# Altium schematic symbol library Schlib1.SchLib: 71 symbols (part 1 of 2)
Pins are listed as number, name and electrical type; pins without a type are passive.

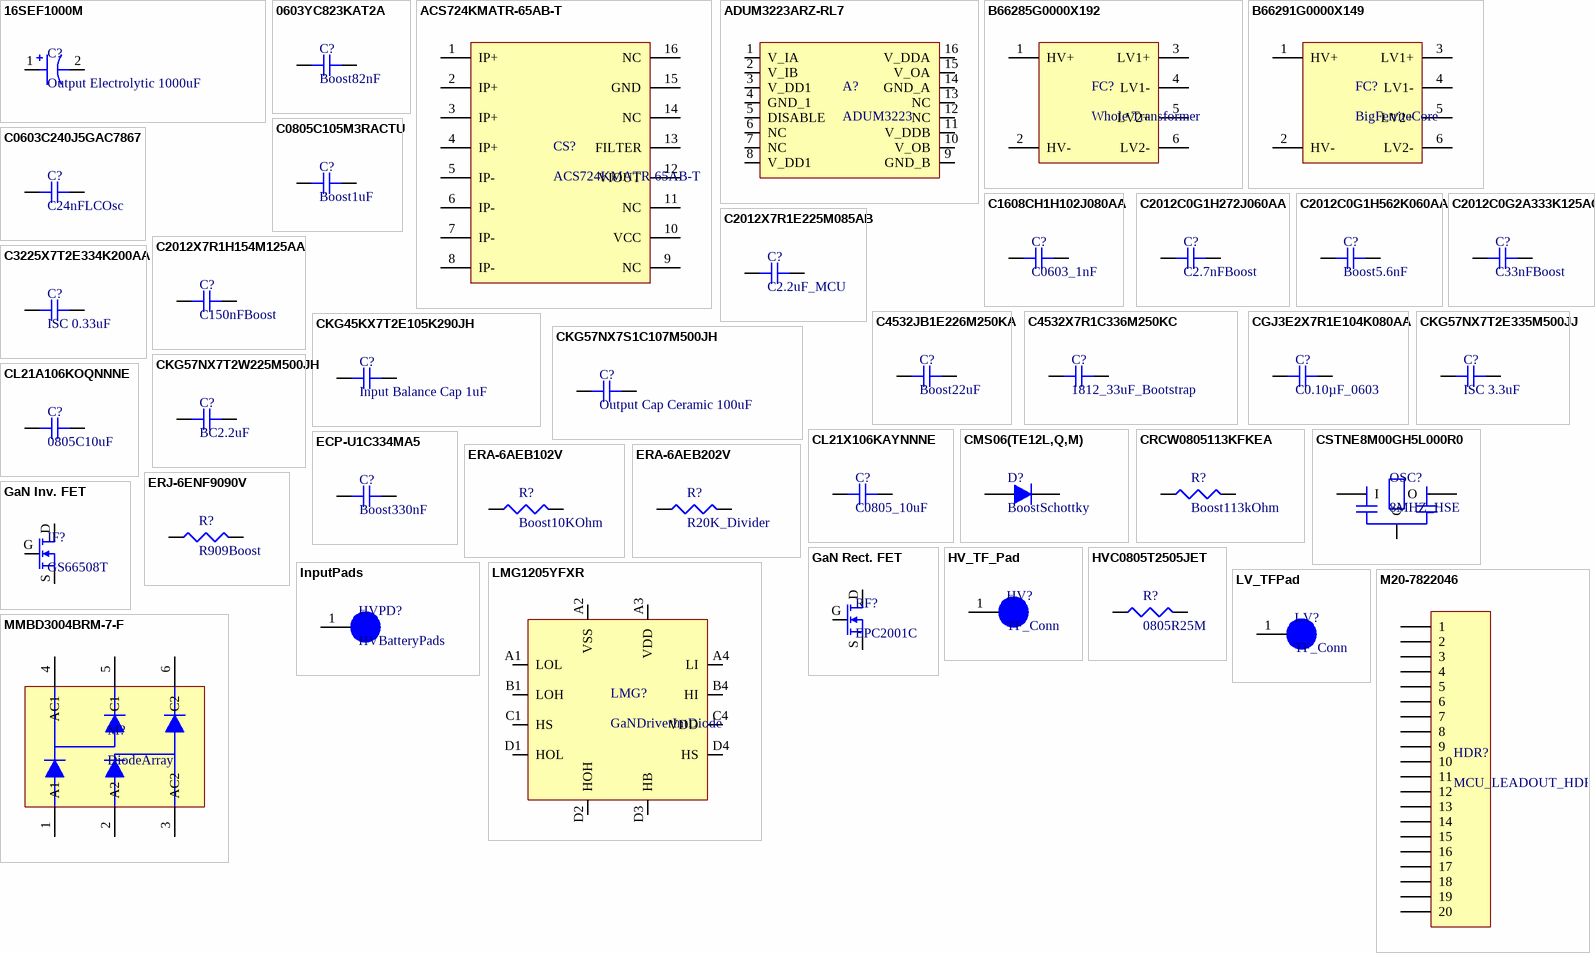
[diagram p0: symbols 16SEF1000M to MMBD3004BRM-7-F]

## 16SEF1000M
designator C?, comment Output Electrolytic 1000uF
16SEF1000M; Manufacturer: Panasonic; Supplier 1: Digi-Key; Manufacturer Part Number: 16SEF1000M; Stock 1: 46; Pricing 1: 1=2.47, 10=2, 100=1.5274, 500=1.1637, 1000=1.0183, 2500=0.9819, 5000=0.9455 (USD); ComponentLink1URL: http://datasheet.octopart.com/16SEF1000M-Panasonic-datasheet-82564691.pdf; ComponentLink1Description: http://datasheet.octopart.com/16SEF1000M-Panasonic-datasheet-82564691.pdf; Supplier Part Number 1: P122094-ND
footprint C1000uF_Elect
pins: 1, 2

## 0603YC823KAT2A
designator C?, comment Boost82nF
CAP CER 0.082UF 16V X7R 0603; Manufacturer: Kyocera AVX; Manufacturer Part Number: 0603YC823KAT2A; Capacitance: 82 nF; Tolerance (%): ±10 %; Supplier 1: Digi-Key; Stock 1: 9038; Pricing 1: 1=0.19, 10=0.133, 100=0.0625, 500=0.0438, 1000=0.0363 (USD); Case Size/Dimension: 0603; Dielectric: X7R; Rated Voltage: 16 V; ComponentLink1URL: http://www.mouser.com/ds/2/40/X7RDielectric-777024.pdf; ComponentLink1Description: http://www.mouser.com/ds/2/40/X7RDielectric-777024.pdf; ComponentLink2URL: http://www.farnell.com/datasheets/683218.pdf; ComponentLink2Description: http://www.farnell.com/datasheets/683218.pdf; ComponentLink3URL: http://datasheets.avx.com/X7RDielectric.pdf; ComponentLink3Description: http://datasheets.avx.com/X7RDielectric.pdf; ComponentLink4URL: http://catalogs.avx.com/SurfaceMount.pdf; ComponentLink4Description: http://catalogs.avx.com/SurfaceMount.pdf; ComponentLink5URL: http://www.farnell.com/datasheets/1679506.pdf; ComponentLink5Description: http://www.farnell.com/datasheets/1679506.pdf; Supplier Part Number 1: 478-1238-1-ND
footprint C/R0603
pins: 1, 2

## ACS724KMATR-65AB-T
designator CS?
HALL EFFECT CURRENT SENSRO; Manufacturer: Allegro MicroSystems; Supplier 1: Digi-Key; Manufacturer Part Number: ACS724KMATR-65AB-T; Stock 1: 2238; Pricing 1: 1=6.64, 5=5.856, 10=5.173, 25=4.1968, 50=3.7088, 100=3.6111, 500=3.0255 (USD); Supplier Part Number 1: 620-1809-1-ND
footprint ACS724KMA
pins: 1 IP+, 2 IP+, 3 IP+, 4 IP+, 5 IP-, 6 IP-, 7 IP-, 8 IP-, 9 NC, 10 VCC, 11 NC, 12 VIOUT, 13 FILTER, 14 NC, 15 GND, 16 NC

## ADUM3223ARZ-RL7
designator A?, comment ADUM3223
Digital Isolators 3kV RMS Prec Half- Bridge Dvr 4A Out; Manufacturer: Analog Devices; Manufacturer Part Number: ADUM3223ARZ-RL7; Number of Channels: 2 Channel; Propagation Delay Time: 38 ns; Supply Voltage - Min: 3.3 V; Supply Voltage - Max: 5 V; Supply Current: 870 uA, 1.4 mA; Development Kit: EVAL-ADUM3223AEBZ; Supplier 1: Digi-Key; Stock 1: 2481; Pricing 1: 1=6.17, 10=5.143, 100=3.7026, 500=2.9827 (USD); Product Category: Digital Isolators; RoHS: Details; Maximum Operating Temperature: + 125 C; Mounting Style: SMD/SMT; Package / Case: SOIC-16; Packaging: Reel; Brand: Analog Devices; Minimum Operating Temperature: - 40 C; Series: ADUM3223; Factory Pack Quantity: 1000; Type: GateDriver; Supplier Part Number 1: ADUM3223ARZ-RL7CT-ND
footprint ADUM3223
pins: 1 V_IA, 2 V_IB, 3 V_DD1, 4 GND_1, 5 DISABLE, 6 NC, 7 NC, 8 V_DD1, 9 GND_B, 10 V_OB, 11 V_DDB, 12 NC, 13 NC, 14 GND_A, 15 V_OA, 16 V_DDA

## B66285G0000X192
designator FC?, comment Whole Transformer
Ferrite Core ELP Core 21.8mm 15.8mm 5.7mm General Application; Manufacturer: TDK EPCOS; Manufacturer Part Number: B66285G0000X192; Part # Aliases: B66285GX192; Core Size: ELP 22 x 6 x 16; Brand: EPCOS / TDK; Tolerance: 0.25 %; Product Depth: 27.9 mm; Product Height: 9.5 mm; Product Length: 43.2 mm; Supplier 1: Digi-Key; Stock 1: 449; Pricing 1: 1=1.9, 10=1.64, 25=1.2464, 50=1.1806, 100=1.0494, 250=0.9838, 500=0.9183, 1000=0.8428, 5000=0.8199 (USD); Product Category: Ferrite Cores & Accessories; RoHS: True; Product: Ferrite Cores; Packaging: Bulk; Factory Pack Quantity: 600; Type: ELP Core; Supplier 2: Digi-Key; Stock 2: 0; Family: B66291; Category: Ferrite Core
footprint PLANAR_TRANSF
pins: 1 HV+, 2 HV-, 3 LV1+, 4 LV1-, 5 LV2+, 6 LV2-

## B66291G0000X149
designator FC?, comment BigFerriteCore
Ferrite Cores & Accessories ELP43/10/28 N49OL; Manufacturer: TDK EPCOS; Manufacturer Part Number: B66291G0000X149; Product Length (mm): 43.2mm; Product Depth (mm): 27.9mm; Product Height (mm): 9.5mm; Supplier 1: Digikey; Stock 1: 63; Pricing 1: 1=5.01, 10=4.265, 25=3.2452, 50=3.1524, 100=2.7816, 250=2.5962, 500=2.4107, 1000=2.318 (USD); Type: ELP Core; Applications: General Application
footprint PLANAR_TRANSF2
pins: 1 HV+, 2 HV-, 3 LV1+, 4 LV1-, 5 LV2+, 6 LV2-

## C0603C240J5GAC7867
designator C?, comment C24nFLCOsc
Cap Ceramic 24pF 50V C0G 5% SMD 0603 125C Paper T/R; Manufacturer: KEMET; Manufacturer Part Number: C0603C240J5GAC7867; Voltage: 50 Vdc; Product Length: 1.6 mm; Product Height: 0.8 mm; Supplier 1: Digi-Key; Stock 1: 25141; Pricing 1: 1=0.4, 10=0.272, 100=0.154, 500=0.1087, 1000=0.0951 (USD); Package/Case: 0603; Mounting: Surface Mount; Capacitance Value: 24 pF; Tolerance: 5 %; Dielectric: C0G; Operating Temperature: -55 to 125 °C; Construction: Flat; Category: Capacitor Ceramic Multilayer
footprint C/R0603
pins: 1, 2

## C0805C105M3RACTU
designator C?, comment Boost1uF
Multilayer Ceramic Capacitors MLCC - SMD/SMT 25volts 1uF X7R 20%; Manufacturer: KEMET; Manufacturer Part Number: C0805C105M3RACTU; Part # Aliases: C0805C105M3RAC7800; Capacitance - nF: 1000 nF; Case Height: 1.1 mm; Case Length: 2 mm; Case Width: 1.2 mm; Class: Class 1; Voltage Rating: 25 V; Temperature Coefficient / Code: +/- 15 %; Type: SMD MLCC X7R 6.3 - 250 VDC Commerical Grade; Supplier 1: Digi-Key; Stock 1: 25000; Pricing 1: 1=0.27, 10=0.187, 100=0.0945, 500=0.0647, 1000=0.0572 (USD); Brand: Kemet; Capacitance: 1 uF; Case Code - in: 0805; Case Code - mm: 2012; Dimensions: 1.2 mm W x 2 mm L x 1.1 mm H; Dielectric: X7R; Maximum Operating Temperature: + 125 C; Factory Pack Quantity: 2500; Product Category: Multilayer Ceramic Capacitors MLCC - SMD/SMT; RoHS: Details; Voltage Rating DC: 25 V; Tolerance: 20 %; Minimum Operating Temperature: - 55 C; Product: General Type MLCCs; Operating Temperature Range: - 55 C to + 125 C; Package / Case: 0805 (2012 metric); Packaging: Reel; Series: C0805C; Termination Style: SMD/SMT; Supplier Part Number 1: 399-8008-1-ND
footprint C/R0805
pins: 1, 2

## C1608CH1H102J080AA
designator C?, comment C0603_1nF
1000pF ±5% 50V CH Ceramic Capacitor -25°C ~ 85°C Surface Mount, MLCC 0603 (1608 Metric) 0.063" L x 0.031" W (1.60mm x 0.80mm); Manufacturer: TDK; Manufacturer Part Number: C1608CH1H102J080AA; Product Training Modules: C Series General Applications SEAT, CCV, and TVCL Design Tools Guide to Replacing an Electrolytic Capacitor with an MLCC; Design Resources: 20 W Non-Isolated Buck LED Driver Using PL LNK460KG; EDA / CAD Models: Download from Accelerated Designs; Online Catalog: C Series, General Purpose; Other Names: 445-11046-1; Supplier 1: Digi-Key; Stock 1: 5102; Pricing 1: 1=0.22, 10=0.151, 100=0.0765, 500=0.0523, 1000=0.0463 (USD); RoHS Information: RoHS Certificate-MLCC; Standard Package: 1; Category: Capacitors; Family: Ceramic Capacitors; Series: C; Packaging: Cut Tape (CT); Capacitance: 1000pF; Tolerance: ±5%; Voltage - Rated: 50V; Temperature Coefficient: CH; Mounting Type: Surface Mount, MLCC; Operating Temperature: -25°C ~ 85°C; Applications: General Purpose; Package / Case: 0603 (1608 Metric); Size / Dimension: 0.063" L x 0.031" W (1.60mm x 0.80mm); Thickness (Max): 0.035" (0.90mm); Supplier Part Number 1: 445-11046-1-ND
footprint C/R0603
pins: 1, 2

## C2012C0G1H272J060AA
designator C?, comment C2.7nFBoost
CAP CER 2700PF 50V C0G 0805; Manufacturer: TDK; Manufacturer Part Number: C2012C0G1H272J060AA; PCN Part Number: MLCC Part Number Change 30/Nov/2012; Product Training Modules: C Series General Applications SEAT, CCV, and TVCL Design Tools Guide to Replacing an Electrolytic Capacitor with an MLCC; Tolerance: ±5%; Temperature Coefficient: C0G, NP0; Online Catalog: C Series, General Purpose; Other Names: 445-7508-6; Supplier 1: Digi-Key; Stock 1: 7816; Pricing 1: 1=0.23, 10=0.156, 100=0.0792, 500=0.0542, 1000=0.048 (USD); RoHS Information: RoHS Certificate-MLCC; Standard Package: 1; Category: Capacitors; Family: Ceramic Capacitors; Series: C; Packaging: Digi-Reel®; Capacitance: 2700pF; Voltage - Rated: 50V; Mounting Type: Surface Mount, MLCC; Operating Temperature: -55°C ~ 125°C; Applications: General Purpose; Ratings: -; Package / Case: 0805 (2012 Metric); Size / Dimension: 0.079" L x 0.049" W (2.00mm x 1.25mm); Height - Seated (Max): -; Thickness (Max): 0.028" (0.70mm); Lead Spacing: -; Features: -; Lead Style: -; ComponentLink1URL: http://www.mouser.com/ds/2/400/lcc_commercial_general_en-837201.pdf; ComponentLink1Description: http://www.mouser.com/ds/2/400/lcc_commercial_general_en-837201.pdf; ComponentLink2URL: https://product.tdk.com/info/en/documents/chara_sheet/C2012C0G1H272J060AA.pdf; ComponentLink2Description: https://product.tdk.com/info/en/documents/chara_sheet/C2012C0G1H272J060AA.pdf; ComponentLink3URL: http://uk.rs-online.com/webdocs/1532/0900766b81532cd0.pdf; ComponentLink3Description: http://uk.rs-online.com/webdocs/1532/0900766b81532cd0.pdf; ComponentLink4URL: https://www.verical.com/server-webapp/html/getDatasheet?partID=781773; ComponentLink4Description: https://www.verical.com/server-webapp/html/getDatasheet?partID=781773
footprint C/R0805
pins: 1, 2

## C2012C0G1H562K060AA
designator C?, comment Boost5.6nF
5600pF ±10% 50V C0G, NP0 Ceramic Capacitor -55°C ~ 125°C Surface Mount, MLCC 0805 (2012 Metric) 0.079" L x 0.049" W (2.00mm x 1.25mm); Manufacturer: TDK; Manufacturer Part Number: C2012C0G1H562K060AA; Product Training Modules: C Series General Applications SEAT, CCV, and TVCL Design Tools Guide to Replacing an Electrolytic Capacitor with an MLCC; EDA / CAD Models: Download from Accelerated Designs; Online Catalog: C Series, General Purpose; Other Names: 445-14323-6; Supplier 1: Digi-Key; Stock 1: 25600; Pricing 1: 1=0.29, 10=0.198, 100=0.1124, 500=0.0794, 1000=0.0694 (USD); RoHS Information: RoHS Certificate-MLCC; Standard Package: 1; Category: Capacitors; Family: Ceramic Capacitors; Series: C; Packaging: Digi-Reel®; Capacitance: 5600pF; Tolerance: ±10%; Voltage - Rated: 50V; Temperature Coefficient: C0G, NP0; Mounting Type: Surface Mount, MLCC; Operating Temperature: -55°C ~ 125°C; Applications: General Purpose; Package / Case: 0805 (2012 Metric); Size / Dimension: 0.079" L x 0.049" W (2.00mm x 1.25mm); Thickness (Max): 0.030" (0.75mm); ComponentLink1URL: https://product.tdk.com/info/en/documents/chara_sheet/C2012C0G1H562K060AA.pdf; ComponentLink1Description: https://product.tdk.com/info/en/documents/chara_sheet/C2012C0G1H562K060AA.pdf; ComponentLink2URL: https://product.tdk.com/en/products/common/pdf/mlcc_partnumber_description.pdf; ComponentLink2Description: https://product.tdk.com/en/products/common/pdf/mlcc_partnumber_description.pdf; Supplier Part Number 1: 445-14323-1-ND
footprint C/R0805
pins: 1, 2

## C2012C0G2A333K125AC
designator C?, comment C33nFBoost
Multilayer Ceramic Capacitors MLCC - SMD/SMT 0805 0.033uF 100volt C0G +/-10% 1.25mm; Manufacturer: TDK; Manufacturer Part Number: C2012C0G2A333K125AC; Part # Aliases: C2012CH2A333K125AC; Voltage Rating DC: 100 VDC; Dielectric: C0G (NP0); Tolerance: 10 %; Capacitance - nF: 33 nF; Capacitance - pF: 33000 pF; Class: Class 1; Type: Commercial Grade MLCC; Unit Weight: 0.000194 oz; Supplier 1: Digi-Key; Stock 1: 6892; Pricing 1: 1=0.39, 10=0.273, 100=0.1639, 500=0.1229, 1000=0.1038 (USD); Product Category: Multilayer Ceramic Capacitors MLCC - SMD/SMT; RoHS: True; Capacitance: 0.033 uF; Case Code - in: 0805; Case Code - mm: 2012; Height: 1.25 mm; Maximum Operating Temperature: + 125 C; Minimum Operating Temperature: - 55 C; Product: General Type MLCCs; Series: C; Packaging: Reel; Brand: TDK; Length: 2 mm; Package / Case: 0805 (2012 metric); Factory Pack Quantity: 2000; Termination Style: SMD/SMT; Width: 1.25 mm
footprint C/R0805
pins: 1, 2

## C2012X7R1E225M085AB
designator C?, comment C2.2uF_MCU
2.2µF ±20% 25V X7R Ceramic Capacitor -55°C ~ 125°C Surface Mount, MLCC 0805 (2012 Metric) 0.079" L x 0.049" W (2.00mm x 1.25mm); Manufacturer: TDK; Manufacturer Part Number: C2012X7R1E225M085AB; Product Training Modules: C Series General Applications SEAT, CCV, and TVCL Design Tools Guide to Replacing an Electrolytic Capacitor with an MLCC; EDA / CAD Models: Download from Accelerated Designs; Online Catalog: C Series, General Purpose; Other Names: 445-14536-1; Supplier 1: Digi-Key; Stock 1: 14512; Pricing 1: 1=0.52, 10=0.359, 100=0.2156, 500=0.1617, 1000=0.1366 (USD); RoHS Information: RoHS Certificate-MLCC; Standard Package: 1; Category: Capacitors; Family: Ceramic Capacitors; Series: C; Packaging: Cut Tape (CT); Capacitance: 2.2µF; Tolerance: ±20%; Voltage - Rated: 25V; Temperature Coefficient: X7R; Mounting Type: Surface Mount, MLCC; Operating Temperature: -55°C ~ 125°C; Applications: General Purpose; Package / Case: 0805 (2012 Metric); Size / Dimension: 0.079" L x 0.049" W (2.00mm x 1.25mm); Thickness (Max): 0.039" (1.00mm); ComponentLink1URL: https://product.tdk.com/info/en/catalog/spec/mlccspec_commercial_general_midvoltage_en.pdf; ComponentLink1Description: https://product.tdk.com/info/en/catalog/spec/mlccspec_commercial_general_midvoltage_en.pdf
footprint C/R0805
pins: 1, 2

## C2012X7R1H154M125AA
designator C?, comment C150nFBoost
CAP CER 0.15UF 50V X7R 0805; Manufacturer: TDK; Manufacturer Part Number: C2012X7R1H154M125AA; PCN Part Number: MLCC Part Number Change 30/Nov/2012; Product Training Modules: C Series General Applications SEAT, CCV, and TVCL Design Tools Guide to Replacing an Electrolytic Capacitor with an MLCC; Capacitance: 0.15µF; Tolerance: ±20%; Online Catalog: C Series, General Purpose; Other Names: 445-7539-6; Supplier 1: Digi-Key; Stock 1: 3416; Pricing 1: 1=0.19, 10=0.133, 100=0.0625, 500=0.0438, 1000=0.0363 (USD); RoHS Information: RoHS Certificate-MLCC; Standard Package: 1; Category: Capacitors; Family: Ceramic Capacitors; Series: C; Packaging: Digi-Reel®; Voltage - Rated: 50V; Temperature Coefficient: X7R; Mounting Type: Surface Mount, MLCC; Operating Temperature: -55°C ~ 125°C; Applications: General Purpose; Ratings: -; Package / Case: 0805 (2012 Metric); Size / Dimension: 0.079" L x 0.049" W (2.00mm x 1.25mm); Height - Seated (Max): -; Thickness (Max): 0.057" (1.45mm); Lead Spacing: -; Features: -; Lead Style: -; ComponentLink1URL: http://www.mouser.com/ds/2/400/lcc_commercial_general_en-837201.pdf; ComponentLink1Description: http://www.mouser.com/ds/2/400/lcc_commercial_general_en-837201.pdf; ComponentLink2URL: https://product.tdk.com/en/products/common/pdf/mlcc_partnumber_description.pdf; ComponentLink2Description: https://product.tdk.com/en/products/common/pdf/mlcc_partnumber_description.pdf; ComponentLink3URL: http://product.tdk.com/capacitor/mlcc/en/documents/mlcc_commercial_general_en.pdf; ComponentLink3Description: http://product.tdk.com/capacitor/mlcc/en/documents/mlcc_commercial_general_en.pdf
footprint C/R0805
pins: 1, 2

## C3225X7T2E334K200AA
designator C?, comment ISC 0.33uF
CAP CER 0.33UF 250V X7T 1210; Manufacturer: TDK; Manufacturer Part Number: C3225X7T2E334K200AA; PCN Part Number: MLCC Part Number Change 30/Nov/2012; Product Training Modules: SEAT, CCV, and TVCL Design Tools Guide to Replacing an Electrolytic Capacitor with an MLCC; Featured Product: C-Series Mid Voltage MLCCs; Capacitance: 0.33µF; Tolerance: ±10%; Online Catalog: C Series, Mid Voltage; Other Names: 445-7764-6; Supplier 1: Digi-Key; Stock 1: 10000; Pricing 1: 1=0.92, 10=0.648, 100=0.4269, 500=0.3163 (USD); RoHS Information: RoHS Certificate-MLCC; Standard Package: 1; Category: Capacitors; Family: Ceramic Capacitors; Series: C; Packaging: Digi-Reel®; Voltage - Rated: 250V; Temperature Coefficient: X7T; Mounting Type: Surface Mount, MLCC; Operating Temperature: -55°C ~ 125°C; Applications: General Purpose; Ratings: -; Package / Case: 1210 (3225 Metric); Size / Dimension: 0.126" L x 0.098" W (3.20mm x 2.50mm); Height - Seated (Max): -; Thickness (Max): 0.087" (2.20mm); Lead Spacing: -; Features: -; Lead Style: -; Supplier Part Number 1: 445-7764-1-ND
footprint C1210
pins: 1, 2

## C4532JB1E226M250KA
designator C?, comment Boost22uF
22µF ±20% 25V JB Ceramic Capacitor -25°C ~ 85°C Surface Mount, MLCC 1812 (4532 Metric) 0.177" L x 0.126" W (4.50mm x 3.20mm); Manufacturer: TDK; Manufacturer Part Number: C4532JB1E226M250KA; Product Training Modules: C Series General Applications SEAT, CCV, and TVCL Design Tools Guide to Replacing an Electrolytic Capacitor with an MLCC; Featured Product: CH and JB Temperature Coefficient Capacitors; EDA / CAD Models: Download from Accelerated Designs; Online Catalog: C Series, General Purpose; Other Names: 445-11950-6; Supplier 1: Digi-Key; Stock 1: 2719; Pricing 1: 1=1.44, 10=1.139, 100=0.8539 (USD); RoHS Information: RoHS Certificate-MLCC; Standard Package: 1; Category: Capacitors; Family: Ceramic Capacitors; Series: C; Packaging: Digi-Reel®; Capacitance: 22µF; Tolerance: ±20%; Voltage - Rated: 25V; Temperature Coefficient: JB; Mounting Type: Surface Mount, MLCC; Operating Temperature: -25°C ~ 85°C; Applications: General Purpose; Package / Case: 1812 (4532 Metric); Size / Dimension: 0.177" L x 0.126" W (4.50mm x 3.20mm); Thickness (Max): 0.110" (2.80mm); ComponentLink1URL: https://product.tdk.com/en/products/common/pdf/mlcc_partnumber_description.pdf; ComponentLink1Description: https://product.tdk.com/en/products/common/pdf/mlcc_partnumber_description.pdf; Supplier Part Number 1: 445-11950-1-ND
footprint C/R1812
pins: 1, 2

## C4532X7R1C336M250KC
designator C?, comment 1812_33uF_Bootstrap
CAP CER 33UF 16V X7R 1812; Manufacturer: TDK; Manufacturer Part Number: C4532X7R1C336M250KC; PCN Part Number: MLCC Part Number Change 30/Nov/2012; Product Training Modules: High Capacitance Replacement C Series General Applications SEAT, CCV, and TVCL Design Tools Guide to Replacing an Electrolytic Capacitor with an MLCC; Catalog Drawings: C SERIES_1812_2.8; Capacitance: 33µF; Tolerance: ±20%; Online Catalog: C Series, General Purpose; Other Names: 445-3924-6; Supplier 1: Digi-Key; Stock 1: 5000; Pricing 1: 1=1.8, 10=1.423, 100=1.0673 (USD); RoHS Information: RoHS Certificate-MLCC; Standard Package: 1; Category: Capacitors; Family: Ceramic Capacitors; Series: C; Packaging: Digi-Reel®; Voltage - Rated: 16V; Temperature Coefficient: X7R; Mounting Type: Surface Mount, MLCC; Operating Temperature: -55°C ~ 125°C; Applications: General Purpose; Ratings: -; Package / Case: 1812 (4532 Metric); Size / Dimension: 0.177" L x 0.126" W (4.50mm x 3.20mm); Height - Seated (Max): -; Thickness (Max): 0.110" (2.80mm); Lead Spacing: -; Features: -; Lead Style: -; Supplier Part Number 1: 445-3924-1-ND
footprint C/R1812
pins: 1, 2

## CGJ3E2X7R1E104K080AA
designator C?, comment C0.10µF_0603
0.10µF ±10% 25V X7R Ceramic Capacitor -55°C ~ 125°C Surface Mount, MLCC 0603 (1608 Metric) 0.063" L x 0.031" W (1.60mm x 0.80mm); Manufacturer: TDK; Manufacturer Part Number: CGJ3E2X7R1E104K080AA; PCN Part Number: MLCC Part Number Change 30/Nov/2012; Product Training Modules: CGJ Series High Reliability SEAT, CCV, and TVCL Design Tools Guide to Replacing an Electrolytic Capacitor with an MLCC; Featured Product: CGJ Series MLCCs; EDA / CAD Models: Download from Accelerated Designs; Ratings: COTS; Online Catalog: CGJ Series; Other Names: 445-8129-6; Supplier 1: Digi-Key; Stock 1: 10713; Pricing 1: 1=0.28, 10=0.191, 100=0.0967, 500=0.0662, 1000=0.0585 (USD); RoHS Information: RoHS Certificate-MLCC; Standard Package: 1; Category: Capacitors; Family: Ceramic Capacitors; Series: CGJ; Packaging: Digi-Reel®; Capacitance: 0.10µF; Tolerance: ±10%; Voltage - Rated: 25V; Temperature Coefficient: X7R; Mounting Type: Surface Mount, MLCC; Operating Temperature: -55°C ~ 125°C; Applications: High Reliability; Package / Case: 0603 (1608 Metric); Size / Dimension: 0.063" L x 0.031" W (1.60mm x 0.80mm); Thickness (Max): 0.034" (0.87mm); ComponentLink1URL: https://www.verical.com/server-webapp/html/getDatasheet?partID=715814; ComponentLink1Description: https://www.verical.com/server-webapp/html/getDatasheet?partID=715814
footprint C/R0603
pins: 1, 2

## CKG45KX7T2E105K290JH
designator C?, comment Input Balance Cap 1uF
1µF ±10% 250V X7T Ceramic Capacitor -55°C ~ 125°C Surface Mount, MLCC Nonstandard SMD 0.197" L x 0.138" W (5.00mm x 3.50mm); Manufacturer: TDK; Manufacturer Part Number: CKG45KX7T2E105K290JH; PCN Part Number: MLCC Part Number Change 30/Nov/2012; Product Training Modules: CKG Series Capacitor Family MEGACAP Type SEAT, CCV, and TVCL Design Tools Guide to Replacing an Electrolytic Capacitor with an MLCC; Featured Product: CKG Series Multilayer Ceramic Chip Capacitors; EDA / CAD Models: Download from Accelerated Designs; Online Catalog: CKG Series, MEGACAP; Other Names: 445-10386-6; Supplier 1: Digi-Key; Stock 1: 2235; Pricing 1: 1=4.75, 10=3.827, 100=2.9848, 500=2.2194 (USD); RoHS Information: RoHS Certificate-MLCC; Standard Package: 1; Category: Capacitors; Family: Ceramic Capacitors; Series: CKG; Packaging: Digi-Reel®; Capacitance: 1µF; Tolerance: ±10%; Voltage - Rated: 250V; Temperature Coefficient: X7T; Mounting Type: Surface Mount, MLCC; Operating Temperature: -55°C ~ 125°C; Applications: SMPS Filtering, Bypass, Decoupling; Package / Case: Nonstandard SMD; Size / Dimension: 0.197" L x 0.138" W (5.00mm x 3.50mm); Thickness (Max): 0.118" (3.00mm); Features: Low ESL; Lead Style: L-Lead; ComponentLink1URL: https://product.tdk.com/info/en/catalog/datasheets/mlcc_commercial_megacap_en.pdf; ComponentLink1Description: https://product.tdk.com/info/en/catalog/datasheets/mlcc_commercial_megacap_en.pdf
footprint CKG45K
pins: 1, 2

## CKG57NX7S1C107M500JH
designator C?, comment Output Cap Ceramic 100uF
TDK         CKG57NX7S1C107M500JH             SMD Multilayer Ceramic Capacitor, 2220 [5750 Metric], 100 F, 16 V,  20%, X7S, CKG Series; PCN Part Number: MLCC Part Number Change 30/Nov/2012; Product Training Modules: CKG Series Capacitor Family MEGACAP Type SEAT, CCV, and TVCL Design Tools Guide to Replacing an Electrolytic Capacitor with an MLCC; Featured Product: CKG Series Multilayer Ceramic Chip Capacitors; Capacitance: 100µF; Voltage - Rated: 16V; Online Catalog: CKG Series, MEGACAP; Other Names: 445-7105-6; Supplier 1: Digi-Key; Manufacturer: TDK; Manufacturer Part Number: CKG57NX7S1C107M500JH; Stock 1: 21446; Pricing 1: 1=5.1, 10=4.111, 100=3.2068, 500=2.3845 (USD); RoHS Information: RoHS Certificate-MLCC; Standard Package: 1; Category: Capacitors; Family: Ceramic Capacitors; Series: CKG, Megacap; Packaging: Digi-Reel®; Tolerance: ±20%; Temperature Coefficient: X7S; Mounting Type: Surface Mount, MLCC; Operating Temperature: -55°C ~ 125°C; Applications: SMPS Filtering, Bypass, Decoupling; Ratings: -; Package / Case: Stacked SMD, 2 L-Lead; Size / Dimension: 0.236" L x 0.197" W (6.00mm x 5.00mm); Height - Seated (Max): -; Thickness (Max): 0.217" (5.50mm); Lead Spacing: -; Features: Low ESL (Stacked); Lead Style: L-Lead; ComponentLink1URL: http://www.mouser.com/ds/2/400/lcc_commercial_megacap_en-775047.pdf; ComponentLink1Description: http://www.mouser.com/ds/2/400/lcc_commercial_megacap_en-775047.pdf; ComponentLink2URL: https://product.tdk.com/info/en/catalog/datasheets/mlcc_commercial_megacap_en.pdf; ComponentLink2Description: https://product.tdk.com/info/en/catalog/datasheets/mlcc_commercial_megacap_en.pdf; ComponentLink3URL: http://product.tdk.com/capacitor/mlcc/en/documents/mlcc_commercial_megacap_en.pdf; ComponentLink3Description: http://product.tdk.com/capacitor/mlcc/en/documents/mlcc_commercial_megacap_en.pdf; ComponentLink4URL: https://product.tdk.com/info/en/documents/chara_sheet/CKG57NX7S1C107M500JH.pdf; ComponentLink4Description: https://product.tdk.com/info/en/documents/chara_sheet/CKG57NX7S1C107M500JH.pdf; ComponentLink5URL: http://www1.futureelectronics.com/doc/TDK/CKG57NX7S1C107M500JH.pdf; ComponentLink5Description: http://www1.futureelectronics.com/doc/TDK/CKG57NX7S1C107M500JH.pdf; Supplier Part Number 1: 445-7105-1-ND
footprint CKG57N
pins: 1, 2

## CKG57NX7T2E335M500JJ
designator C?, comment ISC 3.3uF
3.3µF ±20% 250V X7T Ceramic Capacitor -55°C ~ 125°C Surface Mount, MLCC Stacked SMD, 2 J-Lead 0.236" L x 0.197" W (6.00mm x 5.00mm); Manufacturer: TDK; Manufacturer Part Number: CKG57NX7T2E335M500JJ; PCN Part Number: MLCC Part Number Change 30/Nov/2012; Product Training Modules: CKG Series Capacitor Family MEGACAP Type SEAT, CCV, and TVCL Design Tools Guide to Replacing an Electrolytic Capacitor with an MLCC; Featured Product: CKG Series Multilayer Ceramic Chip Capacitors; EDA / CAD Models: Download from Accelerated Designs; Online Catalog: CKG Series, MEGACAP; Other Names: 445-10514-1; Supplier 1: Digi-Key; Stock 1: 555; Pricing 1: 1=5.69, 10=5.123, 100=3.8709, 500=3.1878 (USD); RoHS Information: RoHS Certificate-MLCC; Standard Package: 1; Category: Capacitors; Family: Ceramic Capacitors; Series: CKG; Packaging: Cut Tape (CT); Capacitance: 3.3µF; Tolerance: ±20%; Voltage - Rated: 250V; Temperature Coefficient: X7T; Mounting Type: Surface Mount, MLCC; Operating Temperature: -55°C ~ 125°C; Applications: Automotive, SMPS Filtering, Bypass, Decoupling; Ratings: AEC-Q200; Package / Case: Stacked SMD, 2 J-Lead; Size / Dimension: 0.236" L x 0.197" W (6.00mm x 5.00mm); Thickness (Max): 0.217" (5.50mm); Features: Low ESL (Stacked); Lead Style: J-Lead; Supplier Part Number 1: 445-10514-1-ND
footprint CKG57N
pins: 1, 2

## CKG57NX7T2W225M500JH
designator C?, comment BC2.2uF
TDK         CKG57NX7T2W225M500JH             SMD Multilayer Ceramic Capacitor, 2220 [5750 Metric], 2.2 F, 450 V,  20%, X7T, CKG Series; PCN Part Number: MLCC Part Number Change 30/Nov/2012; Product Training Modules: CKG Series Capacitor Family MEGACAP Type SEAT, CCV, and TVCL Design Tools Guide to Replacing an Electrolytic Capacitor with an MLCC; Featured Product: CKG Series Multilayer Ceramic Chip Capacitors; Capacitance: 2.2µF; Voltage - Rated: 450V; Online Catalog: CKG Series, MEGACAP; Other Names: 445-7109-6; Supplier 1: Digi-Key; Manufacturer: TDK; Manufacturer Part Number: CKG57NX7T2W225M500JH; Stock 1: 17948; Pricing 1: 1=4.74, 10=4.269, 100=3.2258, 500=2.6565 (USD); RoHS Information: RoHS Certificate-MLCC; Standard Package: 1; Category: Capacitors; Family: Ceramic Capacitors; Series: CKG, Megacap; Packaging: Digi-Reel®; Tolerance: ±20%; Temperature Coefficient: X7T; Mounting Type: Surface Mount, MLCC; Operating Temperature: -55°C ~ 125°C; Applications: SMPS Filtering, Bypass, Decoupling; Ratings: -; Package / Case: Stacked SMD, 2 L-Lead; Size / Dimension: 0.236" L x 0.197" W (6.00mm x 5.00mm); Height - Seated (Max): -; Thickness (Max): 0.217" (5.50mm); Lead Spacing: -; Features: Low ESL (Stacked); Lead Style: L-Lead; ComponentLink1URL: https://product.tdk.com/info/en/documents/chara_sheet/CKG57NX7T2W225M500JH.pdf; ComponentLink1Description: https://product.tdk.com/info/en/documents/chara_sheet/CKG57NX7T2W225M500JH.pdf; ComponentLink2URL: http://www.mouser.com/ds/2/400/lcc_commercial_megacap_en-775047.pdf; ComponentLink2Description: http://www.mouser.com/ds/2/400/lcc_commercial_megacap_en-775047.pdf; ComponentLink3URL: http://www.farnell.com/datasheets/1796627.pdf; ComponentLink3Description: http://www.farnell.com/datasheets/1796627.pdf; Supplier Part Number 1: 445-7109-1-ND
footprint CKG57N
pins: 1, 2

## CL21A106KOQNNNE
designator C?, comment 0805C10uF
Cap Ceramic 10uF 16V X5R 10% SMD 0805 85C T/R; Manufacturer: Samsung; Manufacturer Part Number: CL21A106KOQNNNE; Capacitance: 10000000 pF; Supplier 1: Digi-Key; Stock 1: 20000; Pricing 1: 1=0.21, 10=0.148, 100=0.0698, 500=0.0489, 1000=0.0405 (USD); Case Size/Dimension: 0805; Dielectric: X5R; Tolerance (%): ±10 %; Rated Voltage: 16 V; Supplier Part Number 1: 1276-1096-1-ND
footprint C/R0805
pins: 1, 2

## CL21X106KAYNNNE
designator C?, comment C0805_10uF
CAP CER 10UF 25V X6S 0805; Manufacturer: Samsung; Manufacturer Part Number: CL21X106KAYNNNE; Capacitance: 10µF; Tolerance: ±10%; Supplier 1: Digi-Key; Stock 1: 20000; Pricing 1: 1=0.33, 10=0.228, 100=0.1293, 500=0.0913, 1000=0.0799 (USD); Category: Capacitors; Family: Ceramic Capacitors; Series: CL; Packaging: Tape & Reel (TR); Voltage - Rated: 25V; Temperature Coefficient: X6S; Mounting Type: Surface Mount, MLCC; Operating Temperature: -55°C ~ 105°C; Applications: General Purpose; Ratings: -; Package / Case: 0805 (2012 Metric); Size / Dimension: 0.079" L x 0.049" W (2.00mm x 1.25mm); Height - Seated (Max): -; Thickness (Max): 0.057" (1.45mm); Lead Spacing: -; Features: -; Lead Style: -
footprint C/R0805
pins: 1, 2

## CMS06(TE12L,Q,M)
designator D?, comment BoostSchottky
DIODE SCHOTTKY 30V 2A MFLAT; Manufacturer: Toshiba; Manufacturer Part Number: CMS06(TE12L,Q,M); Voltage - Forward (Vf) (Max) @ If: 370mV @ 2A; Speed: Fast Recovery =  200mA (Io); Current - Reverse Leakage @ Vr: 3mA @ 30V; Capacitance @ Vr, F: 130pF @ 10V, 1MHz; Supplier 1: Digi-Key; Stock 1: 0; Category: Discrete Semiconductor Products; Family: Diodes - Rectifiers - Single; Series: -; Packaging: Cut Tape (CT); Diode Type: Schottky; Voltage - DC Reverse (Vr) (Max): 30V; Current - Average Rectified (Io): 2A; Reverse Recovery Time (trr): -; Mounting Type: Surface Mount; Package / Case: SOD-128; Supplier Device Package: M-FLAT (2.4x3.8); Operating Temperature - Junction: -40°C ~ 125°C; ComponentLink1URL: http://toshiba.semicon-storage.com/info/docget.jsp?did=3138&prodName=CMS06; ComponentLink1Description: http://toshiba.semicon-storage.com/info/docget.jsp?did=3138&prodName=CMS06; ComponentLink2URL: http://www.semicon.toshiba.com.tw/info/docget.jsp?pid=CMS06&lang=en&type=datasheet; ComponentLink2Description: http://www.semicon.toshiba.com.tw/info/docget.jsp?pid=CMS06&lang=en&type=datasheet; ComponentLink3URL: http://datasheet.iiic.cc/toshiba/CMS06_TE12L,Q,M_.pdf; ComponentLink3Description: http://datasheet.iiic.cc/toshiba/CMS06_TE12L,Q,M_.pdf; Supplier Part Number 1: CMS06QMTR-ND
footprint SOD-128
pins: 1, 2

## CRCW0805113KFKEA
designator R?, comment Boost113kOhm
RES SMD 113K OHM 1% 1/8W 0805; Manufacturer: Vishay; Manufacturer Part Number: CRCW0805113KFKEA; Resistance: 113 kOhms; Power Rating: 125 mW (1/8 W); Temperature Coefficient: 100 PPM / K; Voltage Rating: 150 V; Brand: Vishay / Dale; Unit Weight: 0.000194 oz; Supplier 1: Digi-Key; Stock 1: 32347; Pricing 1: 1=0.1, 10=0.069, 100=0.028, 1000=0.0126, 2500=0.0109 (USD); Product Category: Thick Film Resistors; RoHS: True; Tolerance: 1 %; Case Code - in: 0805; Case Code - mm: 2012; Operating Temperature Range: - 55 C to + 155 C; Series: CRCW; Features: Metal glaze on high quality ceramic; Height: 0.45 mm; Length: 2 mm; Package / Case: 0805 (2012 metric); Packaging: Reel; Product: Thick Film Resistors SMD; Factory Pack Quantity: 5000; Termination Style: SMD/SMT; Width: 1.25 mm; ComponentLink1URL: http://www.mouser.com/ds/2/427/dcrcwe3-109170.pdf; ComponentLink1Description: http://www.mouser.com/ds/2/427/dcrcwe3-109170.pdf; ComponentLink2URL: http://www.vishay.com/docs/20035/dcrcwe3.pdf; ComponentLink2Description: http://www.vishay.com/docs/20035/dcrcwe3.pdf; ComponentLink3URL: http://components.arrow.com/part/dataview/41408036S9931533N6892; ComponentLink3Description: http://components.arrow.com/part/dataview/41408036S9931533N6892; ComponentLink4URL: http://www.farnell.com/datasheets/1697337.pdf; ComponentLink4Description: http://www.farnell.com/datasheets/1697337.pdf; ComponentLink5URL: http://www.farnell.com/datasheets/2111203.pdf; ComponentLink5Description: http://www.farnell.com/datasheets/2111203.pdf; ComponentLink6URL: http://www.farnell.com/datasheets/2049244.pdf; ComponentLink6Description: http://www.farnell.com/datasheets/2049244.pdf; Supplier Part Number 1: 541-113KCCT-ND
footprint C/R0805
pins: 1, 2

## CSTNE8M00GH5L000R0
designator OSC?, comment 8MHZ_HSE
8MHZ_Crystal_IntegratedFilter; Manufacturer: Murata; Manufacturer Part Number: CSTNE8M00GH5L000R0; Supplier 1: Digi-Key; Stock 1: 1782; Pricing 1: 1=0.35, 10=0.291, 50=0.2622, 100=0.233, 500=0.2213, 1000=0.1864 (USD)
footprint 8MHZ_OSC
pins: 1 I, 2 O, 3 G

## ECP-U1C334MA5
designator C?, comment Boost330nF
PANASONIC ELECTRONIC COMPONENTS         ECPU1C334MA5             Film Capacitor, 0.33 F, 16 V, ECPU(A) Series,  20%, PPS (Polyphenylene Sulphide); Manufacturer Part Number: ECP-U1C334MA5; Product Range: PANASONIC - ECPU(A) Series; Capacitance: 0.33µF; Capacitor Dielectric Type: Polyphenylene Sulphide (PPS); Voltage Rating: 16V; Capacitor Case Style: 1206 [3216 Metric]; SVHC: No SVHC (16-Dec-2013); Capacitor Mounting: SMD; Dissipation Factor: 1.5%; External Depth: 1mm; External Length / Height: 3.2mm; External Width: 1.6mm; Insulation Resistance: 1000Mohm; No. of Pins: 2; Reel Quantity: 3000; Supplier 1: Digi-Key; Manufacturer: Panasonic; Stock 1: 15128; Pricing 1: 1=0.67, 10=0.49, 100=0.3362, 500=0.2661, 1000=0.2241 (USD); Capacitance Tolerance: ± 20%; Operating Temperature Min: -40°C; Operating Temperature Max: 85°C; Packaging: Cut Tape; Capacitance Tolerance ±: ± 20%; MSL: MSL 4 - 72 hours; Operating Temperature Range: -40°C to +85°C; Tape Width: 8mm; Terminal Type: Surface Mount (SMD, SMT); Tolerance +: 20%; Tolerance -: 20%; Voltage Rating V DC: 16V; ComponentLink1URL: http://www.onlinecomponents.com/productFiles/mf-PSC/abd0000ce12.pdf; ComponentLink1Description: http://www.onlinecomponents.com/productFiles/mf-PSC/abd0000ce12.pdf; ComponentLink2URL: http://industrial.panasonic.com/www-data/pdf/ABD0000/ABD0000CE12.pdf; ComponentLink2Description: http://industrial.panasonic.com/www-data/pdf/ABD0000/ABD0000CE12.pdf; ComponentLink3URL: http://www.jameco.com/Jameco/Products/ProdDS/1983213.pdf; ComponentLink3Description: http://www.jameco.com/Jameco/Products/ProdDS/1983213.pdf; ComponentLink4URL: http://uk.rs-online.com/webdocs/0f2e/0900766b80f2ea72.pdf; ComponentLink4Description: http://uk.rs-online.com/webdocs/0f2e/0900766b80f2ea72.pdf; ComponentLink5URL: https://www.verical.com/server-webapp/html/getDatasheet?partID=169659; ComponentLink5Description: https://www.verical.com/server-webapp/html/getDatasheet?partID=169659; ComponentLink6URL: http://www.farnell.com/datasheets/31740.pdf; ComponentLink6Description: http://www.farnell.com/datasheets/31740.pdf; ComponentLink7URL: http://www.farnell.com/datasheets/1733019.pdf; ComponentLink7Description: http://www.farnell.com/datasheets/1733019.pdf; Supplier Part Number 1: PCF1129DKR-ND
footprint C/R1206
pins: 1, 2

## ERA-6AEB102V
designator R?, comment Boost10KOhm
RES SMD 10K OHM 1% 1/20W 0805; Manufacturer: Panasonic; Manufacturer Part Number: ERA-6AEB102V; Product Range: PANASONIC - ERA Series Metal Film Chip Resistor; Resistance: 1kohm; Power Rating: 125mW; Resistance Tolerance: ± 0.1%; Resistor Case Style: 0805 [2012 Metric]; Resistor Element Material: Thin Film; Temperature Coefficient: ± 25ppm/°C; Voltage Rating: 100V; No. of Pins: 2; SVHC: No SVHC (16-Jun-2014); Reel Quantity: 5000; Supplier 1: Digi-Key; Stock 1: 455647; Pricing 1: 1=0.36, 10=0.302, 100=0.1182, 1000=0.0495, 2500=0.0454 (USD); Operating Temperature Max: 155°C; Operating Temperature Min: -55°C; Operating Temperature Range: -55°C to +155°C; Package / Case: 0805; Packaging: Reel; Resistor Mounting: SMD; Series: ERA; ComponentLink1URL: http://uk.rs-online.com/webdocs/0bee/0900766b80beefcc.pdf; ComponentLink1Description: http://uk.rs-online.com/webdocs/0bee/0900766b80beefcc.pdf; ComponentLink2URL: https://www.distrelec.biz/Web/Downloads/_t/ds/ERA_eng_tds.pdf?mime=application%2Fpdf; ComponentLink2Description: https://www.distrelec.biz/Web/Downloads/_t/ds/ERA_eng_tds.pdf?mime=application%2Fpdf; ComponentLink3URL: http://industrial.panasonic.com/www-data/pdf/AOA0000/AOA0000CE26.pdf; ComponentLink3Description: http://industrial.panasonic.com/www-data/pdf/AOA0000/AOA0000CE26.pdf; ComponentLink4URL: http://www.alliedelec.com/m/d/b6b0537e86f421aa7f5975bb1d8f429a.pdf; ComponentLink4Description: http://www.alliedelec.com/m/d/b6b0537e86f421aa7f5975bb1d8f429a.pdf; ComponentLink5URL: http://www.mouser.com/ds/2/315/AOA0000C237-1100991.pdf; ComponentLink5Description: http://www.mouser.com/ds/2/315/AOA0000C237-1100991.pdf; ComponentLink6URL: http://www.farnell.com/datasheets/2052875.pdf; ComponentLink6Description: http://www.farnell.com/datasheets/2052875.pdf; ComponentLink7URL: http://www.farnell.com/datasheets/485442.pdf; ComponentLink7Description: http://www.farnell.com/datasheets/485442.pdf; ComponentLink8URL: https://industrial.panasonic.com/cdbs/www-data/pdf/RDM0000/AOA0000C307.pdf; ComponentLink8Description: https://industrial.panasonic.com/cdbs/www-data/pdf/RDM0000/AOA0000C307.pdf; ComponentLink9URL: http://www.produktinfo.conrad.com/datenblaetter/450000-474999/453027-da-01-en-WIDERSTAND_0805_ERA.pdf; ComponentLink9Description: http://www.produktinfo.conrad.com/datenblaetter/450000-474999/453027-da-01-en-WIDERSTAND_0805_ERA.pdf
footprint C/R0805
pins: 1, 2

## ERA-6AEB202V
designator R?, comment R20K_Divider
PANASONIC ELECTRONIC COMPONENTS         ERA6AEB202V             SMD Chip Resistor, Thin Film, 2 kohm, 100 V, 0805 [2012 Metric], 125 mW,  0.1%, ERA Series; Manufacturer Part Number: ERA-6AEB202V; Rated Power: 0.125 W; Resistance: 2 kO; Temp Coefficient: ±25 ppm/°C; Supplier 1: Digi-Key; Manufacturer: Panasonic; Stock 1: 79883; Pricing 1: 1=0.36, 10=0.302, 100=0.1182, 1000=0.0495, 2500=0.0454 (USD); Size Code: 0805; Tolerance (%): ±0.1 %; ComponentLink1URL: http://industrial.panasonic.com/www-data/pdf/AOA0000/AOA0000CE26.pdf; ComponentLink1Description: http://industrial.panasonic.com/www-data/pdf/AOA0000/AOA0000CE26.pdf; ComponentLink2URL: https://www.alliedelec.com/m/d/b6b0537e86f421aa7f5975bb1d8f429a.pdf; ComponentLink2Description: https://www.alliedelec.com/m/d/b6b0537e86f421aa7f5975bb1d8f429a.pdf; ComponentLink3URL: http://www.farnell.com/datasheets/485442.pdf; ComponentLink3Description: http://www.farnell.com/datasheets/485442.pdf; ComponentLink4URL: http://www.farnell.com/datasheets/1776116.pdf; ComponentLink4Description: http://www.farnell.com/datasheets/1776116.pdf; ComponentLink5URL: https://www.distrelec.biz/Web/Downloads/_t/ds/ERA_eng_tds.pdf?mime=application%2Fpdf; ComponentLink5Description: https://www.distrelec.biz/Web/Downloads/_t/ds/ERA_eng_tds.pdf?mime=application%2Fpdf; ComponentLink6URL: http://www.farnell.com/datasheets/2052875.pdf; ComponentLink6Description: http://www.farnell.com/datasheets/2052875.pdf; ComponentLink7URL: http://www.farnell.com/datasheets/2059650.pdf; ComponentLink7Description: http://www.farnell.com/datasheets/2059650.pdf; ComponentLink8URL: https://produktinfo.conrad.com/datenblaetter/450000-474999/453123-da-01-en-WIDERSTAND_0805_ERA.pdf; ComponentLink8Description: https://produktinfo.conrad.com/datenblaetter/450000-474999/453123-da-01-en-WIDERSTAND_0805_ERA.pdf
footprint C/R0805
pins: 1, 2

## ERJ-6ENF9090V
designator R?, comment R909Boost
RESISTOR, THICK FILM, 909OHM, 125mW, ± 1%; Manufacturer: Panasonic; Manufacturer Part Number: ERJ-6ENF9090V; Resistance: 909 Ohms; Power Rating: 125 mW (1/8 W); Temperature Coefficient: 100 PPM / C; Voltage Rating: 150 V; Qualification: AEC-Q200; Unit Weight: 0.000194 oz; Supplier 1: Digi-Key; Stock 1: 61549; Pricing 1: 1=0.1, 10=0.081, 100=0.0311, 1000=0.0137, 2500=0.0118 (USD); Product Category: Thick Film Resistors; RoHS: True; Tolerance: 1 %; Case Code - in: 0805; Case Code - mm: 2012; Operating Temperature Range: - 55 C to + 155 C; Series: ERJ; Type: Precision Thick Film Resistors SMD; Brand: Panasonic; Features: High reliability, Small Size and Light Weight; Height: 0.6 mm; Length: 2 mm; Package / Case: 0805 (2012 metric); Packaging: Reel; Product: Thick Film Resistors SMD; Factory Pack Quantity: 5000; Termination Style: SMD/SMT; Width: 1.2 mm; ComponentLink1URL: https://www.verical.com/server-webapp/html/getDatasheet?partID=250213; ComponentLink1Description: https://www.verical.com/server-webapp/html/getDatasheet?partID=250213; ComponentLink2URL: http://www.industrial.panasonic.com/www-data/pdf/AOA0000/AOA0000CE2.pdf; ComponentLink2Description: http://www.industrial.panasonic.com/www-data/pdf/AOA0000/AOA0000CE2.pdf; ComponentLink3URL: http://www.onlinecomponents.com/productFiles/mf-PSC/aoa0000ce2.pdf; ComponentLink3Description: http://www.onlinecomponents.com/productFiles/mf-PSC/aoa0000ce2.pdf; ComponentLink4URL: https://www.alliedelec.com/m/d/623f45ff1957d936ff56d46fd1c28cac.pdf; ComponentLink4Description: https://www.alliedelec.com/m/d/623f45ff1957d936ff56d46fd1c28cac.pdf; ComponentLink5URL: http://industrial.panasonic.com/www-data/pdf/AOA0000/AOA0000CE2.pdf; ComponentLink5Description: http://industrial.panasonic.com/www-data/pdf/AOA0000/AOA0000CE2.pdf; ComponentLink6URL: http://www.farnell.com/datasheets/1678782.pdf; ComponentLink6Description: http://www.farnell.com/datasheets/1678782.pdf
footprint C/R0805
pins: 1, 2

## GaN Inv. FET
designator IF?, comment GS66508T
GaN Inv. FET; Manufacturer: GaN Systems; Manufacturer Part Number: GS66508T-E02-MR; Supplier 1: Mouser; Stock 1: 0; Pricing 1: 1=16.25, 10=15.73, 50=14.99, 100=14.99, 1000=13.92, 10000=13.92 (USD); Supplier Part Number 1: 499-GS66508T-E02-MR
footprint GS66508T
pins: D 2, G 1, S 3

## GaN Rect. FET
designator RF?, comment EPC2001C
GaN Rect. FET; Manufacturer: EPC; Manufacturer Part Number: EPC2023; FET Type: GaNFET N-Channel, Gallium Nitride; FET Feature: Standard; Drain to Source Voltage (Vdss): 100V; Current - Continuous Drain (Id) @ 25°C: 36A (Ta); Rds On (Max) @ Id, Vgs: 7 mOhm @ 25A, 5V; Vgs(th) (Max) @ Id: 2.5V @ 5mA; Gate Charge (Qg) @ Vgs: 9nC @ 5V; Input Capacitance (Ciss) @ Vds: 900pF @ 50V; Supplier 1: Digi-Key; Stock 1: 0; Supplier Part Number 1: 917-1088-1-ND; Supplier 2: Digi-Key; Stock 2: 154109; Pricing 2: 1=5.34, 10=4.768, 25=4.2908, 100=3.9094, 250=3.528, 500=3.1657, 1000=2.6699 (USD); Category: Discrete Semiconductor Products; Family: Transistors - FETs, MOSFETs - Single; Series: eGaN®; Packaging: Digi-Reel®; Power - Max: -; Operating Temperature: -40°C ~ 150°C (TJ); Mounting Type: Surface Mount; Package / Case: Die; Supplier Device Package: Die Outline (11-Solder Bar); Supplier Part Number 2: 917-1079-1-ND
footprint EPC_2001C
pins: D 2, G 1, S 3

## HV_TF_Pad
designator HV?, comment TF_Conn
HV_TF_Conn
footprint HV_Transformer_Pad
pins: 1 PPAD

## HVC0805T2505JET
designator R?, comment 0805R25M
OHMITE   HVC0805T2505JET   Surface Mount Chip Resistor, Thick Film, HVC Series, 25 Mohm, 125 mW,  5%, 200 V; EDA / CAD Models: Download from Accelerated Designs; Resistance (Ohms): 25M; Power (Watts): 0.125W, 1/8W; Temperature Coefficient: ±100ppm/°C; Other Names: HVC0805T2505JETCT; Supplier 1: Digi-Key; Manufacturer: Ohmite; Manufacturer Part Number: HVC0805T2505JET; Stock 1: 185; Pricing 1: 1=2.48, 10=2.196, 100=1.6771 (USD); Featured Product: HVC Series; Standard Package: 1; Category: Resistors; Family: Chip Resistor - Surface Mount; Series: HVC; Packaging: Cut Tape (CT); Tolerance: ±5%; Composition: Thick Film; Features: High Voltage; Operating Temperature: -55°C ~ 155°C; Package / Case: 0805 (2012 Metric); Supplier Device Package: 0805; Size / Dimension: 0.079" L x 0.049" W (2.00mm x 1.25mm); Height: 0.022" (0.55mm); Number of Terminations: 2; Online Catalog: HVC Series; Supplier Part Number 1: HVC0805T2505JETCT-ND
footprint C/R0805
pins: 1, 2

## InputPads
designator HVPD?, comment HVBatteryPads
footprint HVBat_Pads
pins: 1 PPAD

## LMG1205YFXR
designator LMG?, comment GaNDriverIntDiode
LMG1205YFXR; Manufacturer: Texas Instruments; Supplier 1: Digi-Key; Manufacturer Part Number: LMG1205YFXR; Stock 1: 5860; Pricing 1: 1=3.58, 10=3.214, 100=2.6331, 500=2.2415, 1000=1.8905 (USD); Supplier Part Number 1: 296-48589-1-ND
footprint 12-DSBGA
pins: A1 LOL, A2 VSS, A3 VDD, A4 LI, B1 LOH, B4 HI, C1 HS, C4 VDD, D1 HOL, D2 HOH, D3 HB, D4 HS

## LV_TFPad
designator LV?, comment TF_Conn
LV_TF_Conn
footprint LV_TRANSFORMER_PAD
pins: 1 PPAD

## M20-7822046
designator HDR?, comment MCU_LEADOUT_HDR
HARWIN         M20-7822046             Board-To-Board Connector, 2.54 mm, 20 Contacts, Receptacle, M20 Series, Through Hole, 1 Rows; Number of Contacts: 20; Pitch: 2.54mm; Body Orientation: Straight; Current Rating: 3A; Supplier 1: Digi-Key; Manufacturer: Harwin; Manufacturer Part Number: M20-7822046; Stock 1: 2629; Pricing 1: 1=1.89, 11=1.7173, 110=1.4721, 506=1.2268, 1001=1.0515, 5005=0.9323, 10010=0.9113 (USD); Number of Rows: 1; Type: Socket Strip; Mounting Type: Through Hole; Termination Method: Solder; Contact Material: Phosphor Bronze; ComponentLink1URL: http://www.harwin.com/include/downloads/drawings/M20-782.PDF; ComponentLink1Description: http://www.harwin.com/include/downloads/drawings/M20-782.PDF; ComponentLink2URL: http://uk.rs-online.com/webdocs/0dc1/0900766b80dc1d2b.pdf; ComponentLink2Description: http://uk.rs-online.com/webdocs/0dc1/0900766b80dc1d2b.pdf
footprint DIPHDR20
pins: 1, 2, 3, 4, 5, 6, 7, 8, 9, 10, 11, 12, 13, 14, 15, 16, 17, 18, 19, 20

## MMBD3004BRM-7-F
designator M?, comment DiodeArray
DIODE ARRAY GP 300V 225MA SOT26; Manufacturer: Diodes; Manufacturer Part Number: MMBD3004BRM-7-F; Peak Reverse Voltage: 350 V; Max Surge Current: 4 A; If - Forward Current: 0.225 A; Configuration: Double Dual Series; Recovery Time: 50 ns; Vf - Forward Voltage: 1.25 V; Ir - Reverse Current: 0.1 uA; Brand: Diodes Incorporated; Supplier 1: Digi-Key; Stock 1: 0; Product Category: Diodes - General Purpose, Power, Switching; RoHS: True; Product: Switching Diodes; Mounting Style: SMD/SMT; Package / Case: SOT-26-6; Operating Temperature Range: - 65 C to + 150 C; Series: MMBD3004; Packaging: Reel; Height: 1.1 mm; Length: 3 mm; Maximum Operating Temperature: + 150 C; Minimum Operating Temperature: - 65 C; Factory Pack Quantity: 3000; Type: Switching Diode; Width: 1.6 mm; ComponentLink1URL: http://www.mouser.com/ds/2/115/ds30387-43949.pdf; ComponentLink1Description: http://www.mouser.com/ds/2/115/ds30387-43949.pdf; ComponentLink2URL: http://www.diodes.com/datasheets/ds30387.pdf; ComponentLink2Description: http://www.diodes.com/datasheets/ds30387.pdf; ComponentLink3URL: http://www.farnell.com/datasheets/480083.pdf; ComponentLink3Description: http://www.farnell.com/datasheets/480083.pdf; ComponentLink4URL: http://www.jameco.com/Jameco/Products/ProdDS/1540623.pdf; ComponentLink4Description: http://www.jameco.com/Jameco/Products/ProdDS/1540623.pdf; ComponentLink5URL: https://www.diodes.com/assets/Datasheets/ds30387.pdf; ComponentLink5Description: https://www.diodes.com/assets/Datasheets/ds30387.pdf; ComponentLink6URL: http://www.diodes.com//datasheets/ds30387.pdf; ComponentLink6Description: http://www.diodes.com//datasheets/ds30387.pdf; ComponentLink7URL: http://datasheet.iiic.cc/diodes/MMBD3004BRM-7-F.pdf; ComponentLink7Description: http://datasheet.iiic.cc/diodes/MMBD3004BRM-7-F.pdf
footprint SOT-26
pins: 1 A1, 2 A2, 3 AC2, 4 AC1, 5 C1, 6 C2

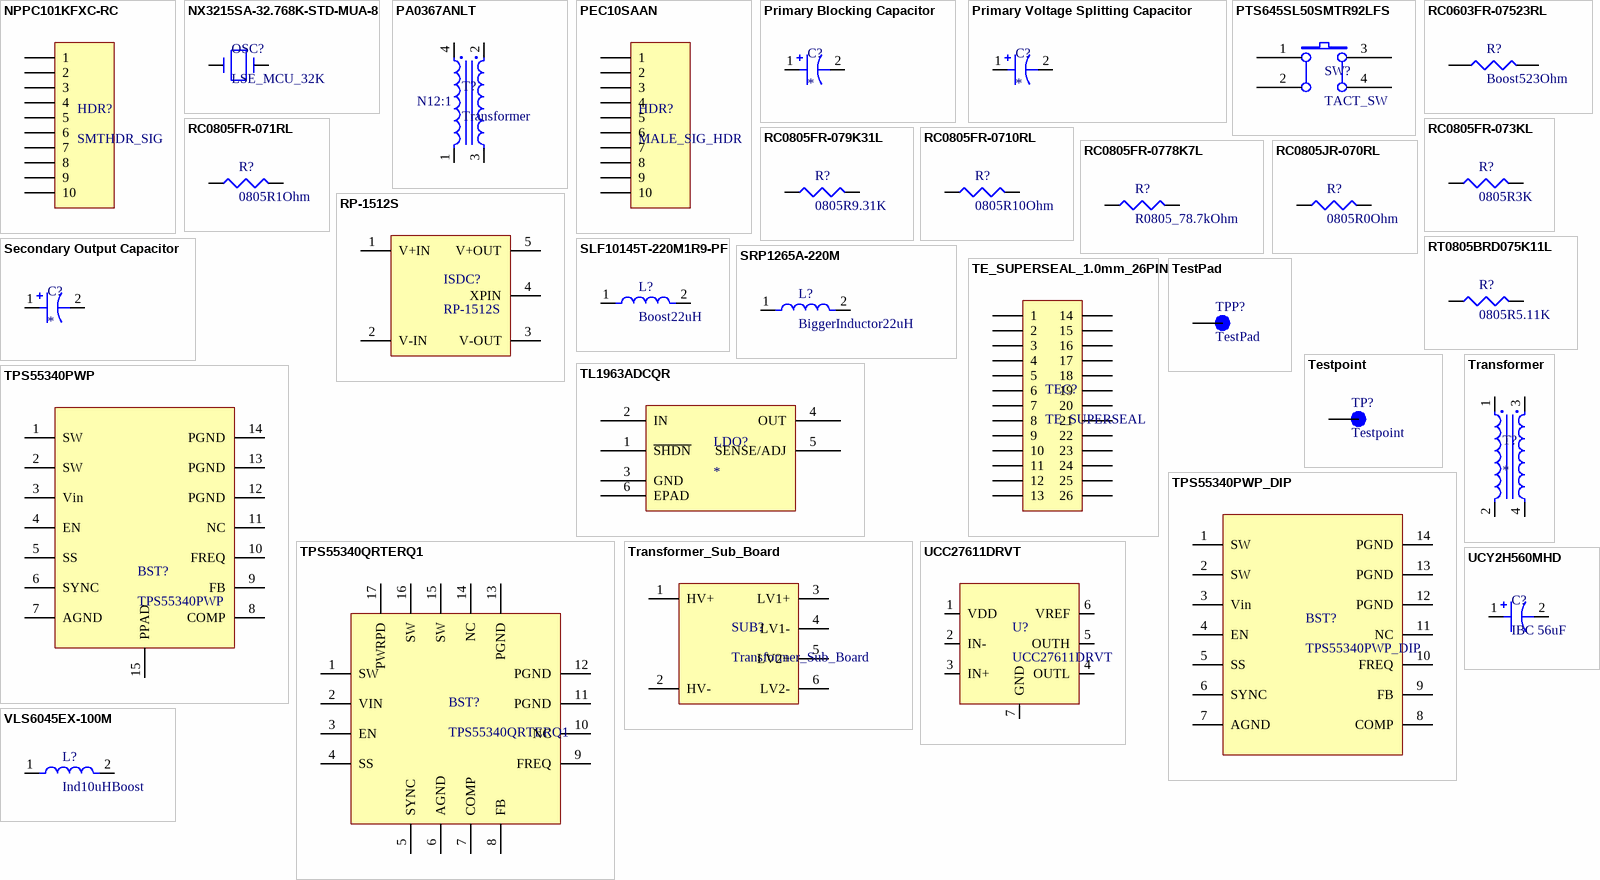
[diagram p1: symbols NPPC101KFXC-RC to VLS6045EX-100M]

## NPPC101KFXC-RC
designator HDR?, comment SMTHDR_SIG
CONN FMALE 10POS .1" SMD GOLD; Manufacturer: Sullins; Manufacturer Part Number: NPPC101KFXC-RC; Catalog Drawings: (N,P)PTC,(N,P)PPC Series SMT; Connector Type: Header; Number of Positions: 10; Number of Positions Loaded: All; Pitch: 0.100" (2.54mm); Dynamic Catalog: NPPC and NPTC; Mating Products: PEC10SBAN-ND / - CONN HEADER .100 SINGL R/A 10POS / S1143E-10-ND / - CONN HEADER 10POS .100 RT/A SMD / S1123E-10-ND / - CONN HEADER 10POS .100 RT/A SMD / S1133E-10-ND / - CONN HEADER 10POS .100 RT/A SMD / S1113E-10-ND / - CONN HEADER 10POS .100 RT/A SMD / S1043E-10-ND / - CONN HEADER 10PS .100 SINGLE SMD / S1023E-10-ND / - CONN HEADER 10PS .100 SINGLE SMD / S1033E-10-ND / - CONN HEADER 10PS .100 SINGLE SMD / S1013E-10-ND / - CONN HEADER 10PS .100 SINGLE SMD / S1321E-10-ND / - CONN HEADER .100 SINGL R/A 10POS / More; Other Names: S5641; Supplier 1: Digi-Key; Stock 1: 3100; Pricing 1: 1=1.32, 10=1.195, 100=1.0244, 500=0.8537, 1000=0.7317, 5000=0.7046 (USD); Standard Package: 1; Category: Connectors, Interconnects; Family: Rectangular Connectors - Headers, Receptacles, Female Sockets; Contact Type: Female Socket; Number of Rows: 1; Mounting Type: Surface Mount; Termination: Solder; Contact Finish: Gold; Contact Finish Thickness: Flash; Color: Black; Packaging: Bulk; ComponentLink1URL: https://media.digikey.com/pdf/Data%20Sheets/Sullins%20PDFs/NPxCxx1KFXx-RC%2010487-D.pdf; ComponentLink1Description: https://media.digikey.com/pdf/Data%20Sheets/Sullins%20PDFs/NPxCxx1KFXx-RC%2010487-D.pdf
footprint DIP_SMT_10
pins: 1, 2, 3, 4, 5, 6, 7, 8, 9, 10

## NX3215SA-32.768K-STD-MUA-8
designator OSC?, comment LSE_MCU_32K
CRYSTAL 32.768KHZ 12.5PF SMD; Manufacturer: NDK; Manufacturer Part Number: NX3215SA-32.768K-STD-MUA-8; Catalog Drawings: NX3215SA Series Top / NX3215SA Series Side / NX3215SA Series Bottom / NX3215SA Series Circuit; Featured Product: NX3215SA Series 32.768KHz SMD Crystals; Frequency Tolerance: ±20ppm; ESR (Equivalent Series Resistance): 70 kOhm; Operating Mode: Fundamental; Dynamic Catalog: NX3215SA Series; Other Names: 644-1156-6; Supplier 1: Digi-Key; Stock 1: 144036; Pricing 1: 1=0.68, 10=0.602, 50=0.5628, 100=0.4974, 500=0.4712, 1000=0.3927 (USD); Standard Package: 1; Category: Crystals and Oscillators; Family: Crystals; Series: NX3215SA; Type: kHz Crystal (Tuning Fork); Frequency: 32.768kHz; Load Capacitance: 12.5pF; Operating Temperature: -40°C ~ 85°C; Mounting Type: Surface Mount; Package / Case: 2-SMD; Size / Dimension: 0.126" L x 0.059" W (3.20mm x 1.50mm); Height: 0.035" (0.90mm); Packaging: Digi-Reel®; ComponentLink1URL: https://media.digikey.com/pdf/Data%20Sheets/NDK%20PDFs/NX3215SA-32.768K-STD-MUA-8.pdf; ComponentLink1Description: https://media.digikey.com/pdf/Data%20Sheets/NDK%20PDFs/NX3215SA-32.768K-STD-MUA-8.pdf
footprint 32KHZ_OSC
pins: 1, 2